# EAGLE library part DRV8432_DRV8432_DKD_36 (library Motor Driver)
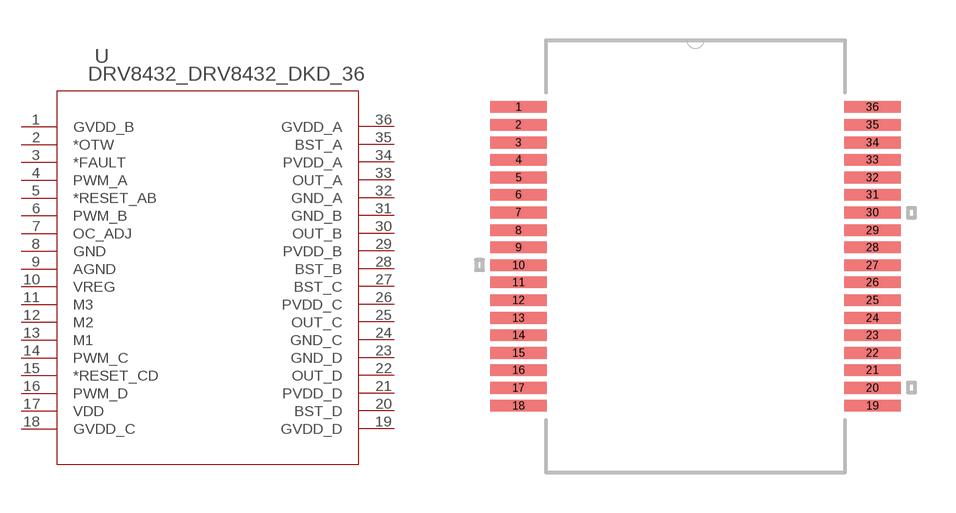
[diagram p0: symbol with the pads of DRV8432_DKD36; footprint DRV8432_DKD36]

Designator prefix U

## DRV8432_DRV8432_DKD_36 (DATASHEETURL: http://www.ti.com/lit/gpn/DRV8432; DESCRIPTION: 12A Dual Brushed DC or Single Bipolar Stepper Motor Driver (PWM Ctrl); FAMILY_NAME: STEPPER DRIVER; GENERIC_PART_NUMBER: DRV8432; INDUSTRY_STD_PKG_TYPE: HSSOP; MANUFACTURER: Texas Instruments; MANUFACTURER_PART_NUMBER: drv8432_dkd_36; PACKAGE_DESIGNATOR: DKD; PIN_COUNT: 36; VENDOR: Texas Instruments)  [DRV8432_DKD36]
1  GVDD_B  pwr
2  *OTW  out
3  *FAULT  out
4  PWM_A  in
5  *RESET_AB  in
6  PWM_B  in
7  OC_ADJ  out
8  GND  pwr
9  AGND  pwr
10  VREG  pwr
11  M3  in
12  M2  in
13  M1  in
14  PWM_C  in
15  *RESET_CD  in
16  PWM_D  in
17  VDD  pwr
18  GVDD_C  pwr
19  GVDD_D  pwr
20  BST_D  pwr
21  PVDD_D  pwr
22  OUT_D  out
23  GND_D  pwr
24  GND_C  pwr
25  OUT_C  out
26  PVDD_C  pwr
27  BST_C  pwr
28  BST_B  pwr
29  PVDD_B  pwr
30  OUT_B  out
31  GND_B  pwr
32  GND_A  pwr
33  OUT_A  out
34  PVDD_A  pwr
35  BST_A  pwr
36  GVDD_A  pwr

## Footprint DRV8432_DKD36 (pad centres in mm)
smd 2.108 x 0.432: 1 -6.553,5.537; 2 -6.553,4.877; 3 -6.553,4.216; 4 -6.553,3.581; 5 -6.553,2.921; 6 -6.553,2.286; 7 -6.553,1.626; 8 -6.553,0.965; 9 -6.553,0.33; 10 -6.553,-0.33; 11 -6.553,-0.965; 12 -6.553,-1.626; 13 -6.553,-2.286; 14 -6.553,-2.921; 15 -6.553,-3.581; 16 -6.553,-4.216; 17 -6.553,-4.877; 18 -6.553,-5.537; 19 6.553,-5.537; 20 6.553,-4.877; 21 6.553,-4.216; 22 6.553,-3.581; 23 6.553,-2.921; 24 6.553,-2.286; 25 6.553,-1.626; 26 6.553,-0.965; 27 6.553,-0.33; 28 6.553,0.33; 29 6.553,0.965; 30 6.553,1.626; 31 6.553,2.286; 32 6.553,2.921; 33 6.553,3.581; 34 6.553,4.216; 35 6.553,4.877; 36 6.553,5.537